# Altium footprint library HIROSE DF13-3P-1.25H.PCBLIB: 1 footprints
Each footprint in its own frame and in the unit in brackets; x right, y up, seen from the top. Pads: shape width x height; smd on the part's side, far side on the other; paste and mask are expansions set on the pad; w line width, h text height; cw(c..) or ccw(c..) is an arc to the next point about the centre after c.
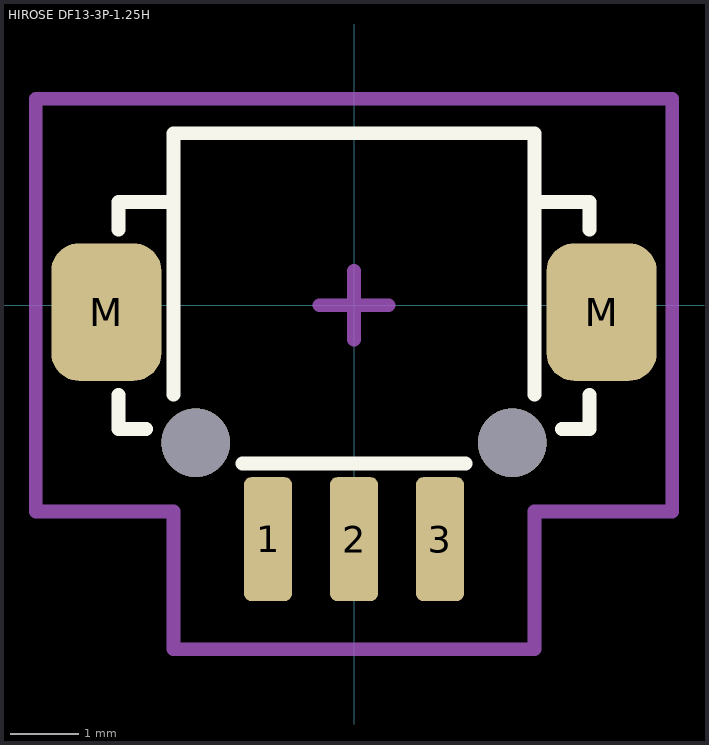
[diagram p0: the footprint, top view; thin cyan lines are the x and y axes]

## HIROSE DF13-3P-1.25H [mm] "DF13 Series 1.25mm pitch miniature crimping connector single row"
height 3.6
pads (5):
  rrect30% 0.7x1.8 smd: 1(-1.25,-3.4) 2(0,-3.4) 3(1.25,-3.4)
  rrect50% 1.6x2 smd: M(-3.6,-0.1) M(3.6,-0.1)
via 2.3,-2 diameter 1 hole 1
via -2.3,-2 diameter 1 hole 1
Top Overlay:
  lines w0.2: -3.425,-1.3 -3.425,-1.8 -3.025,-1.8 ; -3.425,1.1 -3.425,1.5 -2.625,1.5 ; -2.625,-1.3 -2.625,2.5 -0.625,2.5 1.375,2.5 2.625,2.5 2.625,-1.3 ; -1.625,-2.3 -0.625,-2.3 0,-2.3 0.625,-2.3 1.625,-2.3 ; 2.625,1.5 3.425,1.5 3.425,1.1 ; 3.025,-1.8 3.425,-1.8 3.425,-1.3
Mechanical 15:
  lines w0.2: -0.5,0 0.5,0 ; 0,-0.5 0,0.5 ; -4.625,-3 -2.625,-3 -2.625,-5 -0.625,-5 2.625,-5 2.625,-3 4.625,-3 4.625,2.5 4.625,3 3.375,3 -0.625,3 -4.625,3 -4.625,2.5 -4.625,-3
3D body "DF13-3P-1.25H_X_8A_S_H_X_97_S__.STEP": height 3.59, standoff -0.81, extent -4.2,-3.9 4.2,2.6